# Altium schematic symbol library ic_dip_socket.SchLib: 36 symbols
Pins are listed as number, name and electrical type; pins without a type are passive.

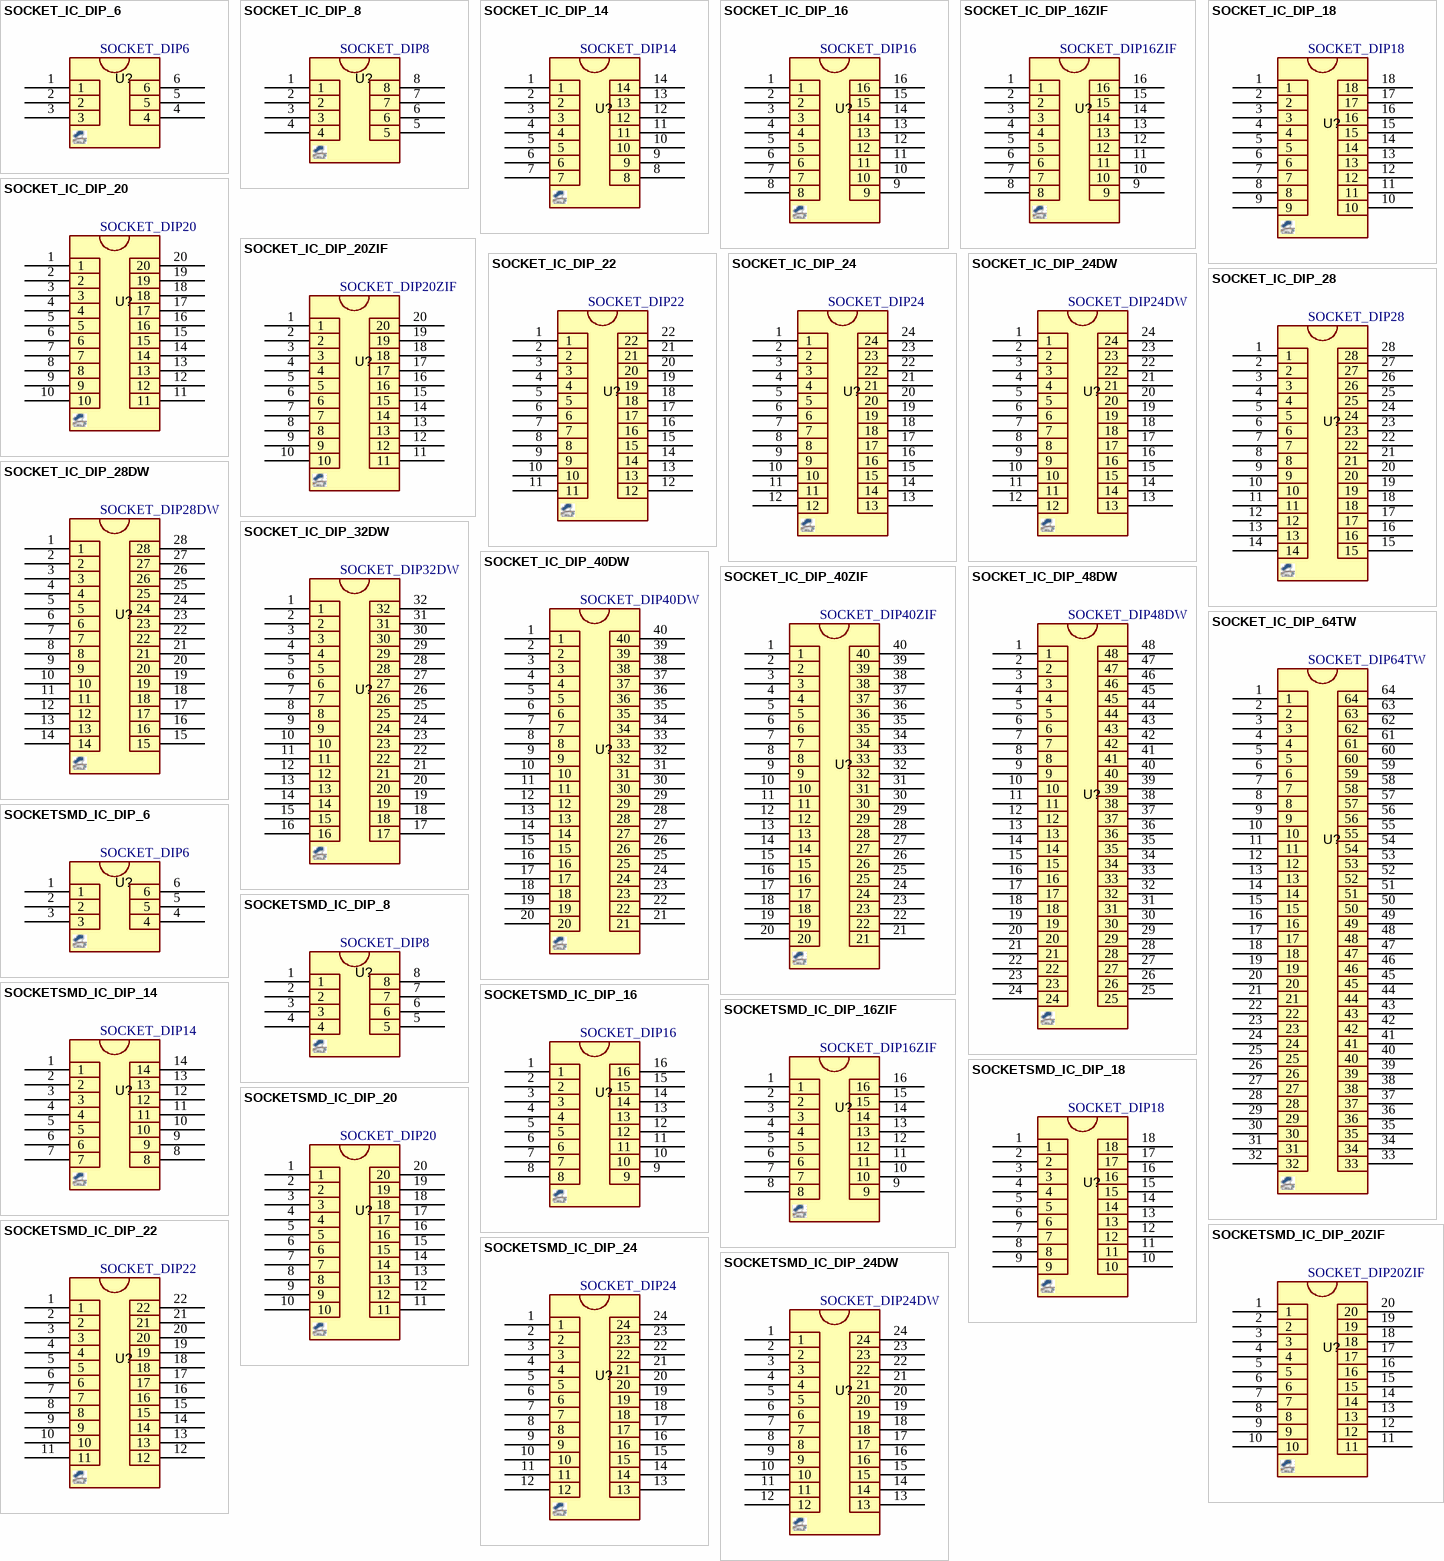
[diagram p0: symbols SOCKET_IC_DIP_6 to SOCKETSMD_IC_DIP_24DW]

## SOCKET_IC_DIP_6
designator U?, comment SOCKET_DIP6
SOCKET, IC DIP,; PARAM: -; PARAM2: -; MANF_P#: -; MANF: -; PRICE: -; VALUE: SOCKET_DIP6
footprint DIPSKT_6 (SOCKET DIP, pitch 2.54mm, 300mil Width)
pins: 1, 2, 3, 4, 5, 6

## SOCKET_IC_DIP_8
designator U?, comment SOCKET_DIP8
SOCKET, IC DIP,; PARAM: -; PARAM2: -; MANF_P#: -; MANF: -; PRICE: -; VALUE: SOCKET_DIP8
footprint DIPSKT_8 (SOCKET DIP, pitch 2.54mm, 300mil Width)
pins: 1, 2, 3, 4, 5, 6, 7, 8

## SOCKET_IC_DIP_14
designator U?, comment SOCKET_DIP14
SOCKET, IC DIP,; PARAM: -; PARAM2: -; MANF_P#: -; MANF: -; PRICE: -; VALUE: SOCKET_DIP14
footprint DIPSKT_14 (SOCKET DIP, pitch 2.54mm, 300mil Width)
pins: 1, 2, 3, 4, 5, 6, 7, 8, 9, 10, 11, 12, 13, 14

## SOCKET_IC_DIP_16
designator U?, comment SOCKET_DIP16
SOCKET, IC DIP,; PARAM: -; PARAM2: -; MANF_P#: -; MANF: -; PRICE: -; VALUE: SOCKET_DIP16
footprint DIPSKT_16 (SOCKET DIP, pitch 2.54mm, 300mil Width)
pins: 1, 2, 3, 4, 5, 6, 7, 8, 9, 10, 11, 12, 13, 14, 15, 16

## SOCKET_IC_DIP_16ZIF
designator U?, comment SOCKET_DIP16ZIF
SOCKET, ZIF, IC DIP,; PARAM: -; PARAM2: -; MANF_P#: -; MANF: -; PRICE: -; VALUE: SOCKET_DIP16ZIF
footprint DIPZIF_16 (SOCKET ZIF DIP, pitch 2.54mm, 300mil Width)
pins: 1, 2, 3, 4, 5, 6, 7, 8, 9, 10, 11, 12, 13, 14, 15, 16

## SOCKET_IC_DIP_18
designator U?, comment SOCKET_DIP18
SOCKET, IC DIP,; PARAM: -; PARAM2: -; MANF_P#: -; MANF: -; PRICE: -; VALUE: SOCKET_DIP18
footprint DIPSKT_18 (SOCKET DIP, pitch 2.54mm, 300mil Width)
pins: 1, 2, 3, 4, 5, 6, 7, 8, 9, 10, 11, 12, 13, 14, 15, 16, 17, 18

## SOCKET_IC_DIP_20
designator U?, comment SOCKET_DIP20
SOCKET, IC DIP,; PARAM: -; PARAM2: -; MANF_P#: -; MANF: -; PRICE: -; VALUE: SOCKET_DIP20
footprint DIPSKT_20 (SOCKET DIP, pitch 2.54mm, 300mil Width)
pins: 1, 2, 3, 4, 5, 6, 7, 8, 9, 10, 11, 12, 13, 14, 15, 16, 17, 18, 19, 20

## SOCKET_IC_DIP_20ZIF
designator U?, comment SOCKET_DIP20ZIF
SOCKET, ZIF, IC DIP,; PARAM: -; PARAM2: -; MANF_P#: -; MANF: -; PRICE: -; VALUE: SOCKET_DIP20ZIF
footprint DIPZIF_20 (SOCKET ZIF DIP 20)
pins: 1, 2, 3, 4, 5, 6, 7, 8, 9, 10, 11, 12, 13, 14, 15, 16, 17, 18, 19, 20

## SOCKET_IC_DIP_22
designator U?, comment SOCKET_DIP22
SOCKET, IC DIP,; PARAM: -; PARAM2: -; MANF_P#: -; MANF: -; PRICE: -; VALUE: SOCKET_DIP22
footprint DIPSKT_22 (SOCKET DIP, pitch 2.54mm, 400mil Width, 28X10mm)
pins: 1, 2, 3, 4, 5, 6, 7, 8, 9, 10, 11, 12, 13, 14, 15, 16, 17, 18, 19, 20, 21, 22

## SOCKET_IC_DIP_24
designator U?, comment SOCKET_DIP24
SOCKET, IC DIP,; PARAM: -; PARAM2: -; MANF_P#: -; MANF: -; PRICE: -; VALUE: SOCKET_DIP24
footprint DIPSKT_24 (SOCKET DIP, pitch 2.54mm, 300mil Width)
pins: 1, 2, 3, 4, 5, 6, 7, 8, 9, 10, 11, 12, 13, 14, 15, 16, 17, 18, 19, 20, 21, 22, 23, 24

## SOCKET_IC_DIP_24DW
designator U?, comment SOCKET_DIP24DW
SOCKET, IC DIP,; PARAM: -; PARAM2: -; MANF_P#: -; MANF: -; PRICE: -; VALUE: SOCKET_DIP24DW
footprint DIPSKT_24DW (SOCKET DIP, pitch 2.54mm, 600mil Width)
pins: 1, 2, 3, 4, 5, 6, 7, 8, 9, 10, 11, 12, 13, 14, 15, 16, 17, 18, 19, 20, 21, 22, 23, 24

## SOCKET_IC_DIP_28
designator U?, comment SOCKET_DIP28
SOCKET, IC DIP,; PARAM: -; PARAM2: -; MANF_P#: -; MANF: -; PRICE: -; VALUE: SOCKET_DIP28
footprint DIPSKT_28 (SOCKET DIP, pitch 2.54mm, 300mil Width)
pins: 1, 2, 3, 4, 5, 6, 7, 8, 9, 10, 11, 12, 13, 14, 15, 16, 17, 18, 19, 20, 21, 22, 23, 24, 25, 26, 27, 28

## SOCKET_IC_DIP_28DW
designator U?, comment SOCKET_DIP28DW
SOCKET, IC DIP,; PARAM: -; PARAM2: -; MANF_P#: -; MANF: -; PRICE: -; VALUE: SOCKET_DIP28DW
footprint DIPSKT_28DW (SOCKET DIP, pitch 2.54mm, 600mil Width)
pins: 1, 2, 3, 4, 5, 6, 7, 8, 9, 10, 11, 12, 13, 14, 15, 16, 17, 18, 19, 20, 21, 22, 23, 24, 25, 26, 27, 28

## SOCKET_IC_DIP_32DW
designator U?, comment SOCKET_DIP32DW
SOCKET, IC DIP,; PARAM: -; PARAM2: -; MANF_P#: -; MANF: -; PRICE: -; VALUE: SOCKET_DIP32DW
footprint DIPSKT_32DW (SOCKET DIP, pitch 2.54mm, 600mil Width)
pins: 1, 2, 3, 4, 5, 6, 7, 8, 9, 10, 11, 12, 13, 14, 15, 16, 17, 18, 19, 20, 21, 22, 23, 24, 25, 26, 27, 28, 29, 30, 31, 32

## SOCKET_IC_DIP_40DW
designator U?, comment SOCKET_DIP40DW
SOCKET, IC DIP,; PARAM: -; PARAM2: -; MANF_P#: -; MANF: -; PRICE: -; VALUE: SOCKET_DIP40DW
footprint DIPSKT_40DW (SOCKET DIP, pitch 2.54mm, 600mil Width)
pins: 1, 2, 3, 4, 5, 6, 7, 8, 9, 10, 11, 12, 13, 14, 15, 16, 17, 18, 19, 20, 21, 22, 23, 24, 25, 26, 27, 28, 29, 30, 31, 32, 33, 34, 35, 36, 37, 38, 39, 40

## SOCKET_IC_DIP_40ZIF
designator U?, comment SOCKET_DIP40ZIF
SOCKET, ZIF, IC DIP,; PARAM: -; PARAM2: -; MANF_P#: -; MANF: -; PRICE: -; VALUE: SOCKET_DIP40ZIF
footprint DIPZIF_40 (SOCKET ZIF DIP, pitch 2.54mm, 600mil Width, IC ZIF SOCKET, 240-6I82 3M)
pins: 1, 2, 3, 4, 5, 6, 7, 8, 9, 10, 11, 12, 13, 14, 15, 16, 17, 18, 19, 20, 21, 22, 23, 24, 25, 26, 27, 28, 29, 30, 31, 32, 33, 34, 35, 36, 37, 38, 39, 40

## SOCKET_IC_DIP_48DW
designator U?, comment SOCKET_DIP48DW
SOCKET, IC DIP,; PARAM: -; PARAM2: -; MANF_P#: -; MANF: -; PRICE: -; VALUE: SOCKET_DIP48DW
footprint DIPSKT_48DW (SOCKET DIP, pitch 2.54mm, 600mil Width)
pins: 1, 2, 3, 4, 5, 6, 7, 8, 9, 10, 11, 12, 13, 14, 15, 16, 17, 18, 19, 20, 21, 22, 23, 24, 25, 26, 27, 28, 29, 30, 31, 32, 33, 34, 35, 36, 37, 38, 39, 40, 41, 42, 43, 44, 45, 46, 47, 48

## SOCKET_IC_DIP_64TW
designator U?, comment SOCKET_DIP64TW
SOCKET, IC DIP,; PARAM: -; PARAM2: -; MANF_P#: -; MANF: -; PRICE: -; VALUE: SOCKET_DIP64TW
footprint DIPSKT_64TW (SOCKET DIP, pitch 2.54mm, 900mil Width)
pins: 1, 2, 3, 4, 5, 6, 7, 8, 9, 10, 11, 12, 13, 14, 15, 16, 17, 18, 19, 20, 21, 22, 23, 24, 25, 26, 27, 28, 29, 30, 31, 32, 33, 34, 35, 36, 37, 38, 39, 40, 41, 42, 43, 44, 45, 46, 47, 48, 49, 50, 51, 52, 53, 54, 55, 56, 57, 58, 59, 60, 61, 62, 63, 64

## SOCKETSMD_IC_DIP_6
designator U?, comment SOCKET_DIP6
SOCKET, IC DIP,; PARAM: -; PARAM2: -; MANF_P#: -; MANF: -; PRICE: -; VALUE: SOCKET_DIP6
footprint DIPSKTSMD_6 (SOCKET DIP, pitch 2.54mm, 300mil Width)
pins: 1, 2, 3, 4, 5, 6

## SOCKETSMD_IC_DIP_8
designator U?, comment SOCKET_DIP8
SOCKET, IC DIP,; PARAM: -; PARAM2: -; MANF_P#: -; MANF: -; PRICE: -; VALUE: SOCKET_DIP8
footprint DIPSKTSMD_8 (SOCKET DIP, pitch 2.54mm, 300mil Width)
pins: 1, 2, 3, 4, 5, 6, 7, 8

## SOCKETSMD_IC_DIP_14
designator U?, comment SOCKET_DIP14
SOCKET, IC DIP,; PARAM: -; PARAM2: -; MANF_P#: -; MANF: -; PRICE: -; VALUE: SOCKET_DIP14
footprint DIPSKTSMD_14 (SOCKET DIP, pitch 2.54mm, 300mil Width)
pins: 1, 2, 3, 4, 5, 6, 7, 8, 9, 10, 11, 12, 13, 14

## SOCKETSMD_IC_DIP_16
designator U?, comment SOCKET_DIP16
SOCKET, IC DIP,; PARAM: -; PARAM2: -; MANF_P#: -; MANF: -; PRICE: -; VALUE: SOCKET_DIP16
footprint DIPSKTSMD_16 (SOCKET DIP, pitch 2.54mm, 300mil Width)
pins: 1, 2, 3, 4, 5, 6, 7, 8, 9, 10, 11, 12, 13, 14, 15, 16

## SOCKETSMD_IC_DIP_16ZIF
designator U?, comment SOCKET_DIP16ZIF
SOCKET, ZIF, IC DIP,; PARAM: -; PARAM2: -; MANF_P#: -; MANF: -; PRICE: -; VALUE: SOCKET_DIP16ZIF
footprint DIPZIFSMD_16 (SOCKET ZIF DIP, pitch 2.54mm, 300mil Width)
pins: 1, 2, 3, 4, 5, 6, 7, 8, 9, 10, 11, 12, 13, 14, 15, 16

## SOCKETSMD_IC_DIP_18
designator U?, comment SOCKET_DIP18
SOCKET, IC DIP,; PARAM: -; PARAM2: -; MANF_P#: -; MANF: -; PRICE: -; VALUE: SOCKET_DIP18
footprint DIPSKTSMD_18 (SOCKET DIP, pitch 2.54mm, 300mil Width)
pins: 1, 2, 3, 4, 5, 6, 7, 8, 9, 10, 11, 12, 13, 14, 15, 16, 17, 18

## SOCKETSMD_IC_DIP_20
designator U?, comment SOCKET_DIP20
SOCKET, IC DIP,; PARAM: -; PARAM2: -; MANF_P#: -; MANF: -; PRICE: -; VALUE: SOCKET_DIP20
footprint DIPSKTSMD_20 (SOCKET DIP, pitch 2.54mm, 300mil Width)
pins: 1, 2, 3, 4, 5, 6, 7, 8, 9, 10, 11, 12, 13, 14, 15, 16, 17, 18, 19, 20

## SOCKETSMD_IC_DIP_20ZIF
designator U?, comment SOCKET_DIP20ZIF
SOCKET, ZIF, IC DIP,; PARAM: -; PARAM2: -; MANF_P#: -; MANF: -; PRICE: -; VALUE: SOCKET_DIP20ZIF
footprint DIPZIFSMD_20 (SOCKET ZIF DIP 20)
pins: 1, 2, 3, 4, 5, 6, 7, 8, 9, 10, 11, 12, 13, 14, 15, 16, 17, 18, 19, 20

## SOCKETSMD_IC_DIP_22
designator U?, comment SOCKET_DIP22
SOCKET, IC DIP,; PARAM: -; PARAM2: -; MANF_P#: -; MANF: -; PRICE: -; VALUE: SOCKET_DIP22
footprint DIPSKTSMD_22 (SOCKET DIP, pitch 2.54mm, 400mil Width, 28X10mm)
pins: 1, 2, 3, 4, 5, 6, 7, 8, 9, 10, 11, 12, 13, 14, 15, 16, 17, 18, 19, 20, 21, 22

## SOCKETSMD_IC_DIP_24
designator U?, comment SOCKET_DIP24
SOCKET, IC DIP,; PARAM: -; PARAM2: -; MANF_P#: -; MANF: -; PRICE: -; VALUE: SOCKET_DIP24
footprint DIPSKTSMD_24 (SOCKET DIP, pitch 2.54mm, 300mil Width)
pins: 1, 2, 3, 4, 5, 6, 7, 8, 9, 10, 11, 12, 13, 14, 15, 16, 17, 18, 19, 20, 21, 22, 23, 24

## SOCKETSMD_IC_DIP_24DW
designator U?, comment SOCKET_DIP24DW
SOCKET, IC DIP,; PARAM: -; PARAM2: -; MANF_P#: -; MANF: -; PRICE: -; VALUE: SOCKET_DIP24DW
footprint DIPSKTSMD_24DW (SOCKET DIP, pitch 2.54mm, 600mil Width)
pins: 1, 2, 3, 4, 5, 6, 7, 8, 9, 10, 11, 12, 13, 14, 15, 16, 17, 18, 19, 20, 21, 22, 23, 24

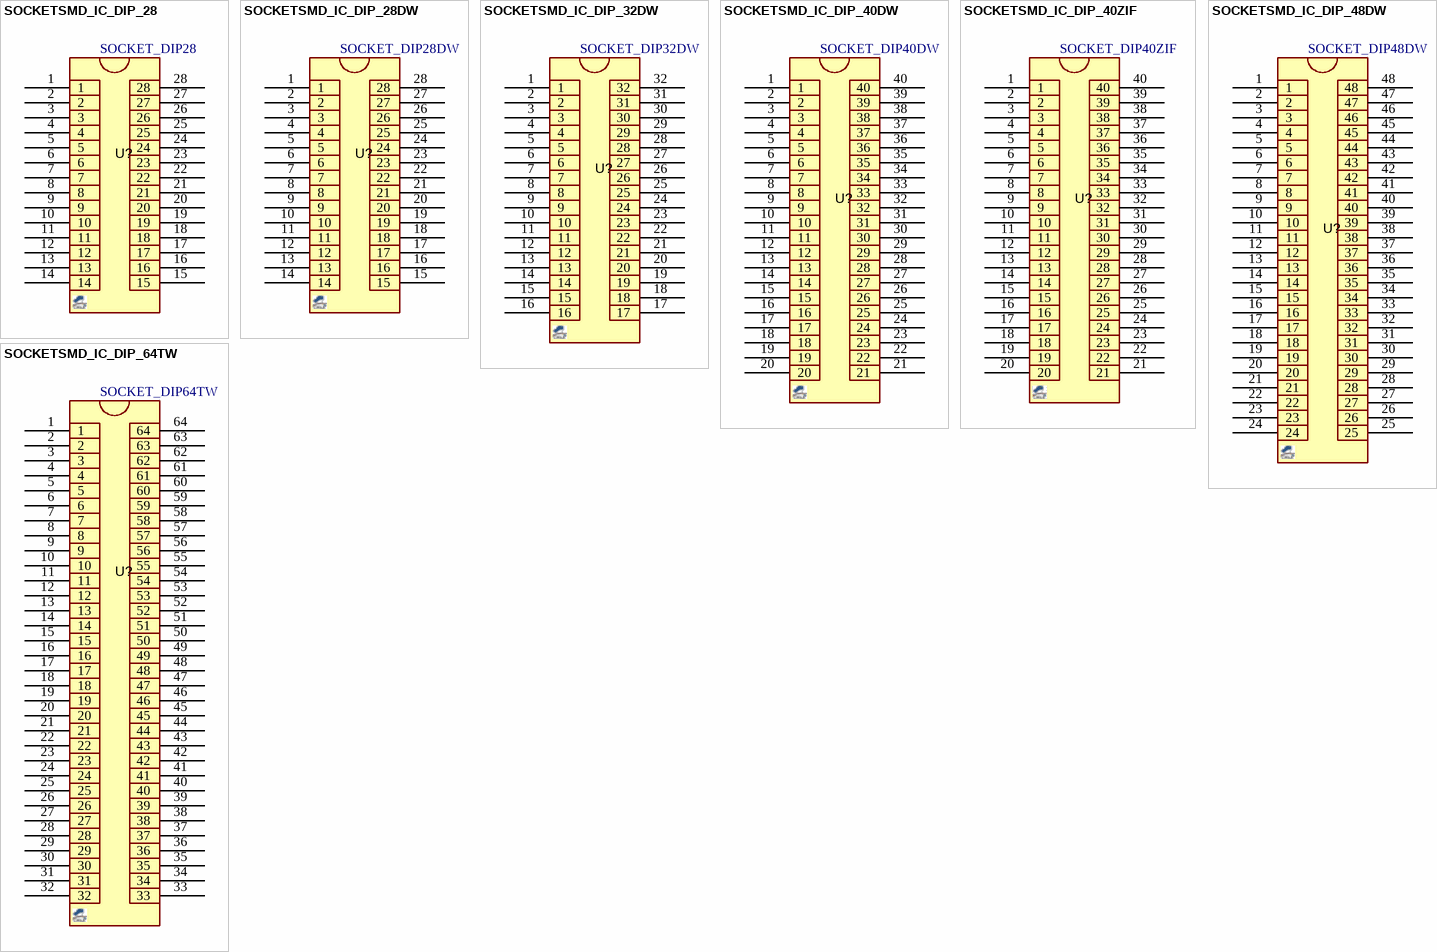
[diagram p1: symbols SOCKETSMD_IC_DIP_28 to SOCKETSMD_IC_DIP_64TW]

## SOCKETSMD_IC_DIP_28
designator U?, comment SOCKET_DIP28
SOCKET, IC DIP,; PARAM: -; PARAM2: -; MANF_P#: -; MANF: -; PRICE: -; VALUE: SOCKET_DIP28
footprint DIPSKTSMD_28 (SOCKET DIP, pitch 2.54mm, 300mil Width)
pins: 1, 2, 3, 4, 5, 6, 7, 8, 9, 10, 11, 12, 13, 14, 15, 16, 17, 18, 19, 20, 21, 22, 23, 24, 25, 26, 27, 28

## SOCKETSMD_IC_DIP_28DW
designator U?, comment SOCKET_DIP28DW
SOCKET, IC DIP,; PARAM: -; PARAM2: -; MANF_P#: -; MANF: -; PRICE: -; VALUE: SOCKET_DIP28DW
footprint DIPSKTSMD_28DW (SOCKET DIP, pitch 2.54mm, 600mil Width)
pins: 1, 2, 3, 4, 5, 6, 7, 8, 9, 10, 11, 12, 13, 14, 15, 16, 17, 18, 19, 20, 21, 22, 23, 24, 25, 26, 27, 28

## SOCKETSMD_IC_DIP_32DW
designator U?, comment SOCKET_DIP32DW
SOCKET, IC DIP,; PARAM: -; PARAM2: -; MANF_P#: -; MANF: -; PRICE: -; VALUE: SOCKET_DIP32DW
footprint DIPSKTSMD_32DW (SOCKET DIP, pitch 2.54mm, 600mil Width)
pins: 1, 2, 3, 4, 5, 6, 7, 8, 9, 10, 11, 12, 13, 14, 15, 16, 17, 18, 19, 20, 21, 22, 23, 24, 25, 26, 27, 28, 29, 30, 31, 32

## SOCKETSMD_IC_DIP_40DW
designator U?, comment SOCKET_DIP40DW
SOCKET, IC DIP,; PARAM: -; PARAM2: -; MANF_P#: -; MANF: -; PRICE: -; VALUE: SOCKET_DIP40DW
footprint DIPSKTSMD_40DW (SOCKET DIP, pitch 2.54mm, 600mil Width)
pins: 1, 2, 3, 4, 5, 6, 7, 8, 9, 10, 11, 12, 13, 14, 15, 16, 17, 18, 19, 20, 21, 22, 23, 24, 25, 26, 27, 28, 29, 30, 31, 32, 33, 34, 35, 36, 37, 38, 39, 40

## SOCKETSMD_IC_DIP_40ZIF
designator U?, comment SOCKET_DIP40ZIF
SOCKET, ZIF, IC DIP,; PARAM: -; PARAM2: -; MANF_P#: -; MANF: -; PRICE: -; VALUE: SOCKET_DIP40ZIF
footprint DIPZIFSMD_40 (SOCKET ZIF DIP, pitch 2.54mm, 600mil Width, IC ZIF SOCKET, 240-6I82 3M)
pins: 1, 2, 3, 4, 5, 6, 7, 8, 9, 10, 11, 12, 13, 14, 15, 16, 17, 18, 19, 20, 21, 22, 23, 24, 25, 26, 27, 28, 29, 30, 31, 32, 33, 34, 35, 36, 37, 38, 39, 40

## SOCKETSMD_IC_DIP_48DW
designator U?, comment SOCKET_DIP48DW
SOCKET, IC DIP,; PARAM: -; PARAM2: -; MANF_P#: -; MANF: -; PRICE: -; VALUE: SOCKET_DIP48DW
footprint DIPSKTSMD_48DW (SOCKET DIP, pitch 2.54mm, 600mil Width)
pins: 1, 2, 3, 4, 5, 6, 7, 8, 9, 10, 11, 12, 13, 14, 15, 16, 17, 18, 19, 20, 21, 22, 23, 24, 25, 26, 27, 28, 29, 30, 31, 32, 33, 34, 35, 36, 37, 38, 39, 40, 41, 42, 43, 44, 45, 46, 47, 48

## SOCKETSMD_IC_DIP_64TW
designator U?, comment SOCKET_DIP64TW
SOCKET, IC DIP,; PARAM: -; PARAM2: -; MANF_P#: -; MANF: -; PRICE: -; VALUE: SOCKET_DIP64TW
footprint DIPSKTSMD_64TW (SOCKET DIP, pitch 2.54mm, 900mil Width)
pins: 1, 2, 3, 4, 5, 6, 7, 8, 9, 10, 11, 12, 13, 14, 15, 16, 17, 18, 19, 20, 21, 22, 23, 24, 25, 26, 27, 28, 29, 30, 31, 32, 33, 34, 35, 36, 37, 38, 39, 40, 41, 42, 43, 44, 45, 46, 47, 48, 49, 50, 51, 52, 53, 54, 55, 56, 57, 58, 59, 60, 61, 62, 63, 64